# Altium integrated library ENC28J60_SS.IntLib: 1 symbol
Pins are listed as number, name and electrical type; pins without a type are passive.

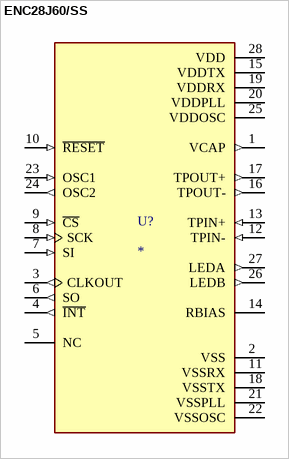
[diagram p0: symbol ENC28J60/SS]

## ENC28J60/SS
designator U?
28 Pin, 8 KB RAM, MAC&PHY, Ethernet Controller | Microchip Technology Inc. ENC28J60/SS; SnapEDA_Link: https://www.snapeda.com/parts/ENC28J60/SS/Microchip/view-part/?ref=snap; Package: SSOP-28 Microchip; Value: *; MF: Microchip; MP: ENC28J60/SS; Check_prices: https://www.snapeda.com/parts/ENC28J60/SS/Microchip/view-part/?ref=eda
footprint SOP65P780X200-28N
pins: 1 VCAP (out), 2 VSS (power), 3 CLKOUT (out), 4 ~{INT} (out), 5 NC, 6 SO (out), 7 SI (in), 8 SCK (in), 9 ~{CS} (in), 10 ~{RESET} (in), 11 VSSRX (power), 12 TPIN- (in), 13 TPIN+ (in), 14 RBIAS, 15 VDDTX (power), 16 TPOUT- (out), 17 TPOUT+ (out), 18 VSSTX (power), 19 VDDRX (power), 20 VDDPLL (power), 21 VSSPLL (power), 22 VSSOSC (power), 23 OSC1 (in), 24 OSC2 (out), 25 VDDOSC (power), 26 LEDB (out), 27 LEDA (out), 28 VDD (power)